# Altium schematic symbol library Otros.SchLib: 10 symbols
Pins are listed as number, name and electrical type; pins without a type are passive.

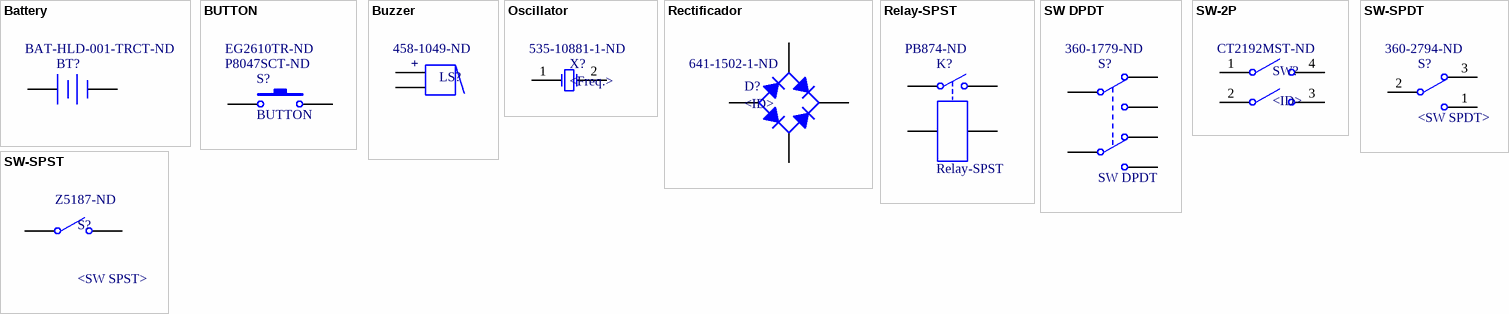
[diagram p0: symbols Battery to SW-SPST]

## Battery
designator BT?  Supplier Part Number 1: BAT-HLD-001-TRCT-ND
Multicell Battery; Published: 24-Mar-1999; LatestRevisionDate: 17-Jul-2002; LatestRevisionNote: Re-released for DXP Platform.; PackageReference: BAT-2; Publisher: Altium Limited; PackageDescription: Battery; 2 Leads; Supplier 1: Digi-Key
footprint Battery Holder (Battery holder CR2032, CR2025 surface mount)
pins: 1 +, 2 -

## BUTTON
designator S?  Supplier Part Number 1: P8047SCT-ND  Supplier Part Number 2: EG2610TR-ND
Switch Button; Published: 24-Mar-1999; LatestRevisionDate: 17-Jul-2002; LatestRevisionNote: Re-released for DXP Platform.; PackageReference: SPST-2; Publisher: Altium Limited; PackageDescription: Switch; 2 Leads; Supplier 1: Digi-Key; Supplier 2: Digi-Key
footprint Button SMD (Pushbutton Switch SPST-NO Standard Surface Mount, Right Angle)
footprint EVQPL (Panasonic EVQPL Tactile Switch)
pins: 1, 2

## Buzzer
designator LS?  Supplier Part Number 1: 458-1049-ND
Magnetic Transducer Buzzer; Published: 24-Mar-1999; LatestRevisionDate: 17-Dec-2003; LatestRevisionNote: Schematic revised, PCB Footprint replaced.; DatasheetVersion: 17-Dec-2003; PackageReference: ABSM-1574; Publisher: Altium Limited; PackageDescription: Magnetic Transducer Buzzer; ComponentLink1Description: Manufacturer Link; ComponentLink1URL: http://www.megastar.com/linecard/buzzmode/index.php; Supplier 1: Digi-Key
footprint Buzzer-SMD (DC Buzzer Single Tone 2.4kHz Magnetic 4 ~ 7V 90dB @ 5V, 10cm)
pins: 1, 2
1 alternate drawing of the same symbol
text: +

## Oscillator
designator X?, comment <Freq.>  Supplier Part Number 1: 535-10881-1-ND
Crystal Oscillator; Supplier 1: Digi-Key
footprint XTAL 4MHz (Low Profile SMD Crystal)
footprint ABM2 - XTAL (Surface Mount 2-SMD, No Lead)
pins: 1 OSC1, 2 OSC2

## Rectificador
designator D?, comment <ID>  Supplier Part Number 1: 641-1502-1-ND
Puente Rectificador; Supplier 1: Digi-Key
footprint Rectificador (Puente Rectificador KBL10)
footprint RECT_2W02 (Puente Rectificador 2W02)
footprint MB10S (MB10S 0.5A Bridge Rectifiers SOIC-4)
footprint Rectifier-SMD-Z4-D (Bridge Rectifier Surface Mount Z4-D)
pins: 1 K, 2 C, 3 C, 4 A

## Relay-SPST
designator K?  Supplier Part Number 1: PB874-ND
Single-Pole Single-Throw Relay; Published: 24-Mar-1999; LatestRevisionDate: 17-Jul-2002; LatestRevisionNote: Re-released for DXP Platform.; PackageReference: MODULE4; Publisher: Altium Limited; Supplier 1: Digi-Key
footprint RELAY (General Purpose Relay SPST-NO)
pins: 1, 2, 3, 4

## SW DPDT
designator S?  Supplier Part Number 1: 360-1779-ND
Switch DPDT 2 position; Published: 24-Mar-1999; LatestRevisionDate: 29-May-2009; LatestRevisionNote: IPC-7351 Footprint Added.; PackageVersion: Mar-2001; PackageReference: SOT23-6; Publisher: Altium Limited; PackageDescription: 6-Pin SOT-23 Package 0.95 mm Pitch, 2.7 mm Lead Span; Code_JEITA: SC-74; Code_IPC: SOT26A-6; Supplier 1: Digi-Key
footprint G3T22AP (Toggle Switch DPDT Surface Mount)
pins: 1 NO1, 2 COMMON1, 3 NC1, 4 NO2, 5 COMMON2, 6 NC2

## SW-2P
designator SW?, comment <ID>  Supplier Part Number 1: CT2192MST-ND
Switch SPST 2 Position; Supplier 1: Digi-Key
footprint SW-SPST-2P (Dip Switch SPST 2 Position Surface Mount Slide (Standard) Actuator 100mA 20VDC)
pins: 1, 2, 3, 4

## SW-SPDT
designator S?, comment <SW SPDT>  Supplier Part Number 1: 360-2794-ND
SPDT Subminiature Toggle Switch, Right Angle Mounting, Vertical Actuation; Published: 24-Mar-1999; LatestRevisionDate: 17-Dec-2003; LatestRevisionNote: Schematic revised, PCB Footprint replaced.; DatasheetVersion: 05-Dec-2000; PackageReference: TL36WW15050; Publisher: Altium Limited; PackageDescription: Switch; 4 Leads; ComponentLink1Description: Manufacturer Link; ComponentLink1URL: http://www.apem.com; Supplier 1: Digi-Key
footprint G3T12AH (Toggle Switch SPDT Surface Mount, Right Angle)
footprint Jumper SMD - Switch (Jumper SMD - Switch (2 positions))
pins: 1, 2, 3

## SW-SPST
designator S?, comment <SW SPST>  Supplier Part Number 1: Z5187-ND
Dip Switch SPST 1 Position Surface Mount Slide (Standard) Actuator; Published: 24-Mar-1999; LatestRevisionDate: 17-Dec-2003; LatestRevisionNote: Schematic revised, PCB Footprint replaced.; DatasheetVersion: 05-Dec-2000; PackageReference: TL36WW15050; Publisher: Altium Limited; PackageDescription: Switch; 4 Leads; ComponentLink1Description: Manufacturer Link; ComponentLink1URL: http://www.apem.com; Supplier 1: Digi-Key
footprint DIP-SWITCH-1P (Dip Switch SPST 1 Position Surface Mount Slide (Standard) Actuator)
pins: 1, 2